# Altium footprint library SMPS_5V_2A.PcbLib: 1 footprints
Each footprint in its own frame and in the unit in brackets; x right, y up, seen from the top. Pads: shape width x height; smd on the part's side, far side on the other; paste and mask are expansions set on the pad; w line width, h text height; cw(c..) or ccw(c..) is an arc to the next point about the centre after c.
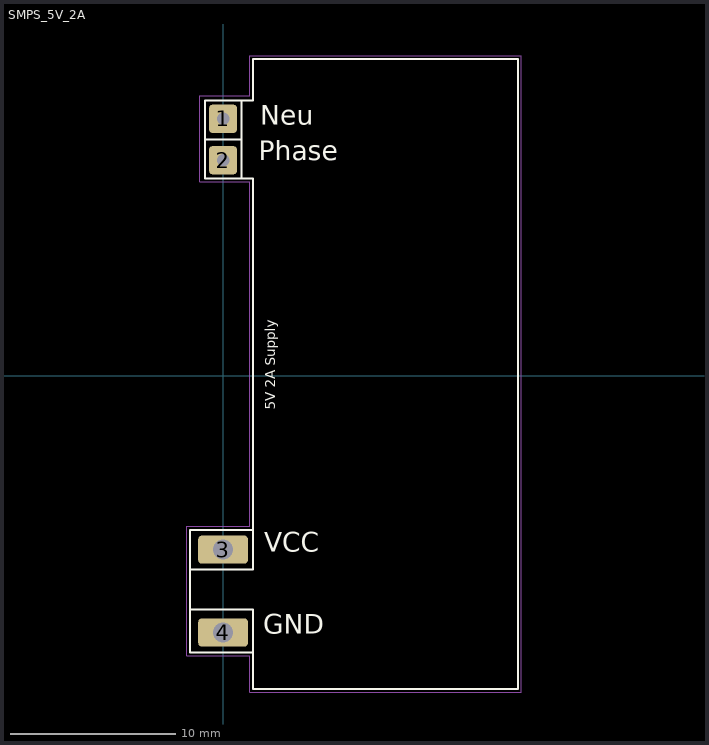
[diagram p0: the footprint, top view; thin cyan lines are the x and y axes]

## SMPS_5V_2A [mm] "SMPS_5V_2A"
pads (4):
  rrect25% 1.7x1.7 hole 0.762 paste-1.7 mask+0: 1(0,15.5) 2(0,13)
  rrect25% 3x1.7 hole 1.2 paste-3 mask+0: 3(0,-10.5) 4(0,-15.5)
Top Overlay:
  lines w0.12: -1.1,14.25 1.1,14.25 ; 1.8,-16.7 -2,-16.7 -2,-14.1 ; 1.8,-9.3 -2,-9.3 -2,-11.7 ; -2,-14.1 -2,-11.7 ; -2,-14.1 1.8,-14.1 1.8,-16.6 1.8,-18.9 17.8,-18.9 17.8,19.1 1.8,19.1 1.8,16.6 -1.1,16.6 ; -2,-11.7 1.8,-11.7 1.8,11.9 -1.1,11.9 ; -1.1,11.9 -1.1,16.6 ; -1.1,11.9 -1.1,16.6 ; -1.1,11.9 1.1,11.9 1.1,16.6 -1.1,16.6
  text "5V 2A Supply" at 3.351,-2.053 h1
  text "GND" at 2.416,-15.978 h2
  text "VCC" at 2.475,-11.027 h2
  text "Phase" at 2.162,12.593 h2
  text "Neu" at 2.246,14.752 h2
Mechanical 12:
  lines w0.05: -2.2,-16.9 -2.2,-9.1 1.6,-9.1 1.6,11.7 -1.2,11.7 -1.4,11.7 -1.4,16.9 1.6,16.9 1.6,19.3 18,19.3 18,-19.1 1.6,-19.1 1.6,-16.9 -2.2,-16.9
3D body "5v2amp supply.STEP": height 18.97, standoff -3.89, extent -1.905,-18.667 15.925,18.933